# Altium footprint library PcbLib_Sword.PcbLib: 33 footprints (part 1 of 3)
Each footprint in its own frame and in the unit in brackets; x right, y up, seen from the top. Pads: shape width x height; smd on the part's side, far side on the other; paste and mask are expansions set on the pad; w line width, h text height; cw(c..) or ccw(c..) is an arc to the next point about the centre after c.
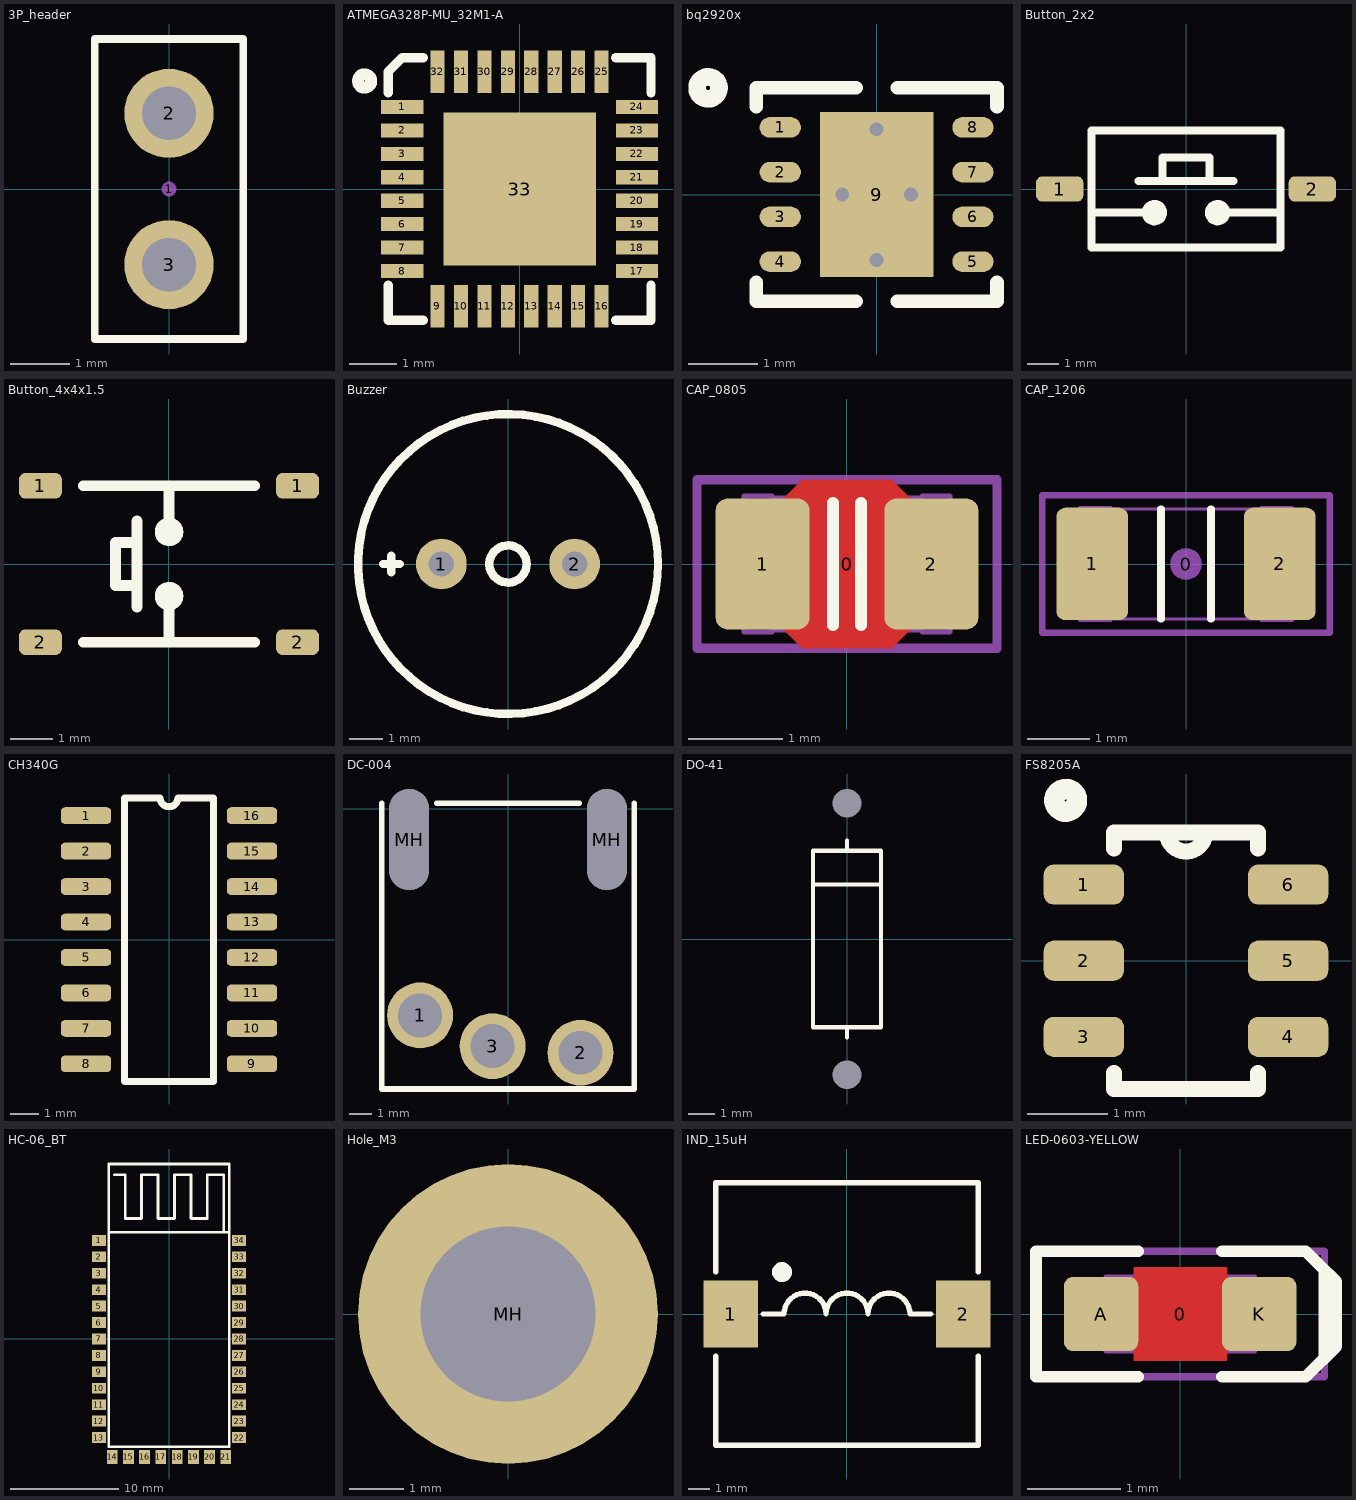
[diagram p0: the footprints below, top view; thin cyan lines are the x and y axes]

## 3P_header [mm]
pads (3):
  round 0.254 on Mech15: 1(0,0)
  round 1.5 hole 0.9: 2(0,1.27) 3(0,-1.27)
Top Overlay:
  lines w0.127: -1.25,-2.52 -1.25,2.52 1.25,2.52 1.25,-2.52 -1.25,-2.52

## ATMEGA328P-MU_32M1-A [mm]
pads (33):
  rect 0.9x0.3 smd: 1(-2.5,1.75) 2(-2.5,1.25) 3(-2.5,0.75) 4(-2.5,0.25) 5(-2.5,-0.25) 6(-2.5,-0.75) 7(-2.5,-1.25) 8(-2.5,-1.75) 17(2.5,-1.75) 18(2.5,-1.25) 19(2.5,-0.75) 20(2.5,-0.25) 21(2.5,0.25) 22(2.5,0.75) 23(2.5,1.25) 24(2.5,1.75)
  rect 0.3x0.9 smd: 9(-1.75,-2.5) 10(-1.25,-2.5) 11(-0.75,-2.5) 12(-0.25,-2.5) 13(0.25,-2.5) 14(0.75,-2.5) 15(1.25,-2.5) 16(1.75,-2.5) 25(1.75,2.5) 26(1.25,2.5) 27(0.75,2.5) 28(0.25,2.5) 29(-0.25,2.5) 30(-0.75,2.5) 31(-1.25,2.5) 32(-1.75,2.5)
  rect 3.25x3.25 smd: 33(0,0)
Top Overlay:
  circle w0.254: c-3.3,2.3 r0.141
  lines w0.2: -2.8,-2.05 -2.8,-2.8 -2.05,-2.8 ; -2.8,2.05 -2.8,2.5 -2.5,2.8 -2.05,2.8 ; 2.05,-2.8 2.8,-2.8 2.8,-2.05 ; 2.05,2.8 2.8,2.8 2.8,2.05
3D body "ATMEGA328P-MU.step": height 1.4, standoff 0, extent -2.553,-2.553 2.553,2.553

## bq2920x [mm]
height 1
pads (9):
  oval 0.6x0.3 smd: 1(-1.4,0.975) 2(-1.4,0.325) 3(-1.4,-0.325) 4(-1.4,-0.975) 5(1.4,-0.975) 6(1.4,-0.325) 7(1.4,0.325) 8(1.4,0.975)
  rect 1.65x2.4 smd: 9(0,0)
via -0.5,0 diameter 0.45 hole 0.2
via 0.5,0 diameter 0.45 hole 0.2
via 0,-0.95 diameter 0.45 hole 0.2
via 0,0.95 diameter 0.45 hole 0.2
Top Overlay:
  circle w0.254: c-2.45,1.55 r0.16
  lines w0.2: -1.75,-1.275 -1.75,-1.55 -0.3,-1.55 ; -1.75,1.275 -1.75,1.55 -0.3,1.55 ; 0.3,-1.55 1.75,-1.55 1.75,-1.275 ; 0.3,1.55 1.75,1.55 1.75,1.275
3D body "BQ29209.stp": height 0.77, standoff 0, extent -1.5,-1.5 1.5,1.5

## Button_2x2 [mm]
pads (2):
  rrect50% 1.5x0.8 smd: 1(-4,0) 2(4,0)
Top Overlay:
  circle w0.3: c1,-0.75 r0.25
  circle w0.3: c-1,-0.75 r0.25
  lines w0.254: -3,-0.75 -2,-0.75 -1,-0.75 ; -1.5,0.25 1.5,0.25 ; -0.75,0.25 -0.75,1 0.75,1 0.75,0.25 ; 1,-0.75 2,-0.75 3,-0.75 ; -3,-1.85 -3,1.85 3,1.85 3,-1.85 -3,-1.85

## Button_4x4x1.5 [mm]
pads (4):
  rrect50% 1x0.6 smd: 1(-3,1.825) 1(3,1.825) 2(-3,-1.825) 2(3,-1.825)
Top Overlay:
  circle w0.254: c0,-0.75 r0.206
  circle w0.254: c0,0.75 r0.206
  lines w0.254: -2,-1.825 2,-1.825 ; -2,1.825 2,1.825 ; -0.75,-1 -0.75,1 ; -0.75,-0.5 -1.25,-0.5 -1.25,0.5 -0.75,0.5 ; 0,-1.825 0,-0.75 ; 0,0.75 0,1.825
3D body "Button4x4x1.5.step": height 1.51, standoff 0.01, extent -3.2,-2.55 3.2,2.55

## Buzzer [mil]
pads (2):
  round 60 hole 30: 1(-78.74,0) 2(78.74,0)
Top Overlay:
  circle w10: c0,0 r177.17
  circle w10: c0,0 r22.01
  lines w10: -147.64,0 -127.95,0 ; -137.8,-9.84 -137.8,9.84
3D body "Buzzer.step": height 154.44, standoff -200.28, extent -177.17,-177.16 177.16,177.17

## CAP_0805 [mm]
pads (3):
  round 0.254 on Mech15: 0(0,0)
  rrect25% 1x1.4 smd: 1(-0.9,0) 2(0.9,0)
Top Layer:
  pour cut-out: -0.675,0.7 -0.475,0.9 0.475,0.9 0.675,0.7 0.675,-0.7 0.475,-0.9 -0.475,-0.9 -0.675,-0.7
Top Overlay:
  lines w0.127: -0.15,-0.651 -0.15,0.651 ; 0.15,-0.651 0.15,0.651
Mechanical 13:
  lines w0.05: -0.8,-0.705 0.8,-0.705 ; -0.8,0.705 0.8,0.705 ; -1.1,-0.725 -0.8,-0.725 -0.8,0.725 -1.1,0.725 -1.1,-0.725 ; 0.8,-0.725 0.8,0.725 1.1,0.725 1.1,-0.725 0.8,-0.725
Mechanical 15:
  lines w0.1: -1.6,-0.9 1.6,-0.9 1.6,0.9 -1.6,0.9 -1.6,-0.9
3D body "CAP_0805.STEP": height 1.34, standoff -0.01, extent -1.1,-0.725 1.1,0.725

## CAP_1206 [mm]
pads (3):
  round 0.508 on Mech15: 0(0,0)
  rrect25% 1.15x1.8 smd: 1(-1.5,0) 2(1.5,0)
Top Overlay:
  lines w0.127: -0.4,-0.876 -0.4,0.876 ; 0.4,-0.876 0.4,0.876
Mechanical 13:
  lines w0.05: -1.2,-0.88 1.2,-0.88 ; -1.2,0.88 1.2,0.88 ; -1.7,-0.9 -1.2,-0.9 -1.2,0.9 -1.7,0.9 -1.7,-0.9 ; 1.2,-0.9 1.7,-0.9 1.7,0.9 1.2,0.9 1.2,-0.9
Mechanical 15:
  lines w0.1: -2.3,-1.1 -2.3,1.1 2.3,1.1 2.3,-1.1 -2.3,-1.1
3D body "CAPC3216X180N - 1206 (3216 metric).STEP": height 1.8, standoff 0, extent -1.7,-0.9 1.7,0.9

## CH340G [mm]
pads (16):
  rrect50% 1.8x0.6 smd: 1(-2.972,4.445) 2(-2.972,3.175) 3(-2.972,1.905) 4(-2.972,0.635) 5(-2.972,-0.635) 6(-2.972,-1.905) 7(-2.972,-3.175) 8(-2.972,-4.445) 9(2.972,-4.445) 10(2.972,-3.175) 11(2.972,-1.905) 12(2.972,-0.635) 13(2.972,0.635) 14(2.972,1.905) 15(2.972,3.175) 16(2.972,4.445)
Top Overlay:
  lines w0.254: -1.6,-5.08 1.6,-5.08 1.6,5.08 0.318,5.08 cw(c0,5.08) -0.318,5.08 -1.6,5.08 -1.6,-5.08
3D body "User Library-CH340G.step": height 1.51, standoff 0.01, extent -4.355,-5 4.355,5

## DC-004 [mm]
pads (5):
  round 3 hole 2: 1(-4,-9.4) 2(3.3,-11.1) 3(-0.7,-10.8)
  oval 1.8x4.6 hole 4.6 slot 1.8 at 0 deg unplated: MH(-4.5,-1.4) MH(4.5,-1.4)
Top Overlay:
  lines w0.254: -5.75,0.25 -5.75,-12.75 5.75,-12.75 5.75,0.25 ; -3.25,0.25 3.25,0.25

## DO-41 [mil] "Diode, thru-hole"
height 106.3
pads (2):
  round 0 / inner round 0 / far side round 100 hole 42 unplated: A(0,-200) K(0,200)
Top Overlay:
  lines w6: -50,80 50,80 ; 0,-145 0,-130 ; 0,130 0,145 ; -50,-130 -50,130 50,130 50,-130 -50,-130
3D body "DIODE0_4-DEFAULT.STEP": height 100.5, standoff -100, extent -51,-215 50,215

## FS8205A [mm]
pads (6):
  rrect50% 1x0.5 smd: 1(-1.275,0.95) 2(-1.275,0) 3(-1.275,-0.95) 4(1.275,-0.95) 5(1.275,0) 6(1.275,0.95)
Top Overlay:
  circle w0.254: c-1.5,2 r0.141
  lines w0.2: -0.9,-1.4 -0.9,-1.6 0.9,-1.6 0.9,-1.4 ; -0.9,1.4 -0.9,1.6 ; -0.238,1.6 ccw(c0,1.6) 0.238,1.6 ; 0.9,1.4 0.9,1.6 ; -0.9,1.6 0.9,1.6 ; -0.9,1.6 0.9,1.6

## HC-06_BT [mil]
pads (34):
  rect 51.2x39.4 smd: 1(-256,360) 2(-256,300) 3(-256,240) 4(-256,180) 5(-256,120) 6(-256,60) 7(-256,0) 8(-256,-60) 9(-256,-120) 10(-256,-180) 11(-256,-240) 12(-256,-300) 13(-256,-360) 22(256,-360) 23(256,-300) 24(256,-240) 25(256,-180) 26(256,-120) 27(256,-60) 28(256,0) 29(256,60) 30(256,120) 31(256,180) 32(256,240) 33(256,300) 34(256,360)
  rect 39.4x51.2 smd: 14(-207,-431) 15(-148,-431) 16(-89,-431) 17(-30,-431) 18(30,-431) 19(89,-431) 20(148,-431) 21(207,-431)
Top Overlay:
  lines w10: -200,600 -180,600 -160,600 -160,440 -100,440 -100,600 -40,600 -40,440 20,440 20,600 80,600 80,440 140,440 140,600 200,600 200,400 200,391 ; -220.47,390 -15,390 15,390 220.47,390 ; -220.47,390 -220.47,-393.7 220.47,-393.7 220.47,390 ; -220.47,390 -220.47,639 220.47,639 220.47,390
3D body "HC-06.step": height 170.19, standoff 0.5, extent -255.91,-429.13 255.9,633.87

## Hole_M3 [mm]
pads (1):
  round 5.5 hole 3.2: MH(0,0)

## IND_15uH [mm]
pads (2):
  rect 2.6x3.2 smd: 1(-5.55,0) 2(5.55,0)
Top Overlay:
  circle w0.5: c-3.1,2 r0.224
  lines w0.254: -6.25,-2 -6.25,-6.25 6.25,-6.25 6.25,-2 ; -6.25,2 -6.25,6.25 6.25,6.25 6.25,2 ; -4,0 -3,0 cw(c-2,0) -1,0 cw(c0,0) 1,0 cw(c2,0) 3,0 4,0
3D body "Inductor.step": height 3.91, standoff -0.09, extent -5.15,-5.1 5.15,5.1

## LED-0603-YELLOW [mm]
height 0.8
pads (3):
  round 0.254 on Mech15: 0(0,0)
  rrect25% 0.8x0.8 smd: A(-0.85,0) K(0.85,0)
Top Layer:
  pour cut-out: -0.5,0.5 0.5,0.5 0.5,-0.5 -0.5,-0.5
Top Overlay:
  lines w0.127: -0.45,-0.675 -1.55,-0.675 -1.55,0.675 -0.45,0.675 ; 0.45,-0.675 1.35,-0.675 1.55,-0.475 1.55,0.475 1.35,0.675 0.45,0.675 ; 1.5,0.525 1.675,0.35 1.675,-0.35 1.525,-0.5
Mechanical 13:
  lines w0.05: -0.6,-0.4 -0.6,0.399 0.6,0.4 0.6,-0.4 -0.6,-0.399 ; -0.505,-0.398 -0.505,0.398 ; -0.5,-0.4 -0.8,-0.4 -0.8,0.4 -0.5,0.4 ; 0.5,-0.4 0.8,-0.4 0.8,0.4 0.5,0.4 ; 0.505,-0.398 0.505,0.398 ; -0.599,-0.398 0.599,-0.398 0.599,0.398 -0.599,0.398 -0.599,-0.398
Mechanical 15:
  lines w0.076: -1.55,-0.675 1.55,-0.675 1.55,0.675 -1.55,0.675 -1.55,-0.675
3D body "LED 0603 APT1608 YELLOW.STEP": height 0.75, standoff 0, extent -0.8,-0.4 0.8,0.4